# Altium schematic symbol library xicor.SCHLIB: 2 symbols
Pins are listed as number, name and electrical type; pins without a type are passive.

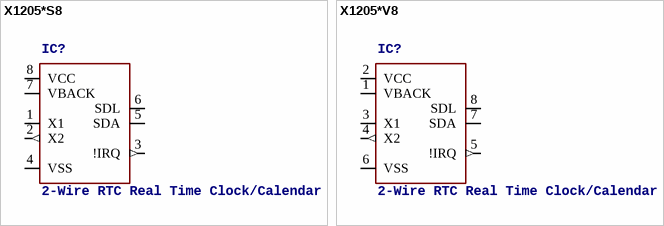
[diagram p0: symbols X1205*S8 to X1205*V8]

## X1205*S8
designator IC?, comment 2-Wire RTC Real Time Clock/Calendar
OC_FARNELL: unknown; OC_NEWARK: unknown
footprint SO-08
pins: 1 X1, 2 X2 (out), 3 !IRQ (out), 4 VSS (power), 5 SDA, 6 SDL, 7 VBACK, 8 VCC (power)

## X1205*V8
designator IC?, comment 2-Wire RTC Real Time Clock/Calendar
OC_FARNELL: unknown; OC_NEWARK: unknown
footprint TSSOP-8
pins: 1 VBACK, 2 VCC (power), 3 X1, 4 X2 (out), 5 !IRQ (out), 6 VSS (power), 7 SDA, 8 SDL